# Altium schematic symbol library Fuses.SchLib: 1 symbol
Pins are listed as number, name and electrical type; pins without a type are passive.

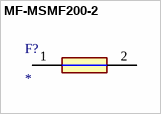
[diagram p0: symbol MF-MSMF200-2]

## MF-MSMF200-2
designator F?
Fuse; Manufacturer_Name: Bourns; Manufacturer_Part_Number: MF-MSMF200-2; Datasheet Link: http://uk.rs-online.com/web/p/products/6478263; Height: 0.85mm; Mouser Part Number: 652-MF-MSMF200-2; Mouser Price/Stock: https://www.mouser.co.uk/ProductDetail/Bourns/MF-MSMF200-2?qs=UBppDQZA%252BGTG9DpaUCFm8g%3D%3D; Arrow Part Number: MF-MSMF200-2; Arrow Price/Stock: https://www.arrow.com/en/products/mf-msmf200-2/bourns?region=nac
footprint FUSC4632X85N
pins: 1, 2